# Altium footprint library DF40C-40DP.PcbLib: 1 footprints
Each footprint in its own frame and in the unit in brackets; x right, y up, seen from the top. Pads: shape width x height; smd on the part's side, far side on the other; paste and mask are expansions set on the pad; w line width, h text height; cw(c..) or ccw(c..) is an arc to the next point about the centre after c.
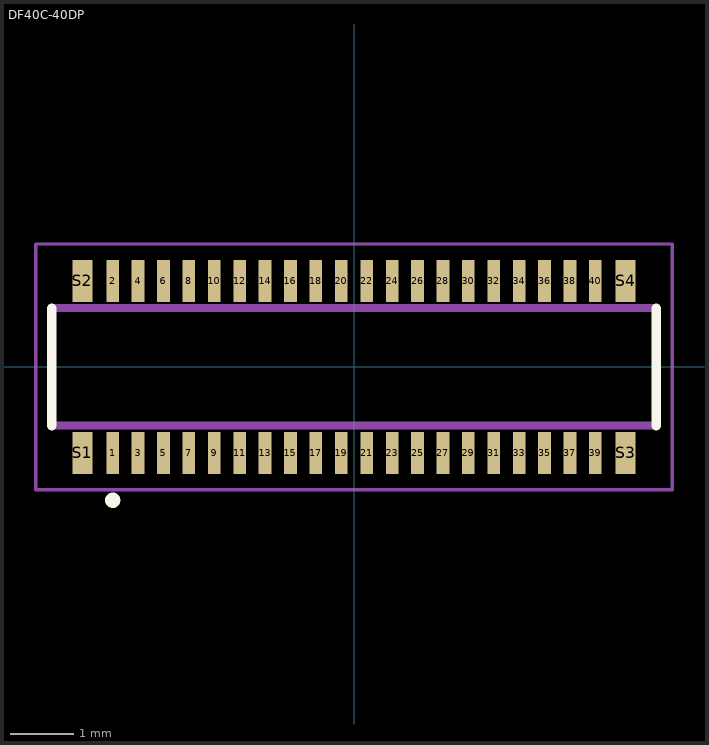
[diagram p0: the footprint, top view; thin cyan lines are the x and y axes]

## DF40C-40DP [mm]
pads (44):
  rect 0.2x0.66 smd: 1(-3.8,-1.355) 2(-3.8,1.355) 3(-3.4,-1.355) 4(-3.4,1.355) 5(-3,-1.355) 6(-3,1.355) 7(-2.6,-1.355) 8(-2.6,1.355) 9(-2.2,-1.355) 10(-2.2,1.355) 11(-1.8,-1.355) 12(-1.8,1.355) 13(-1.4,-1.355) 14(-1.4,1.355) 15(-1,-1.355) 16(-1,1.355) 17(-0.6,-1.355) 18(-0.6,1.355) 19(-0.2,-1.355) 20(-0.2,1.355) 21(0.2,-1.355) 22(0.2,1.355) 23(0.6,-1.355) 24(0.6,1.355) 25(1,-1.355) 26(1,1.355) 27(1.4,-1.355) 28(1.4,1.355) 29(1.8,-1.355) 30(1.8,1.355) 31(2.2,-1.355) 32(2.2,1.355) 33(2.6,-1.355) 34(2.6,1.355) 35(3,-1.355) 36(3,1.355) 37(3.4,-1.355) 38(3.4,1.355) 39(3.8,-1.355) 40(3.8,1.355)
  rect 0.32x0.66 smd: S1(-4.275,-1.355) S2(-4.275,1.355) S3(4.275,-1.355) S4(4.275,1.355)
Top Overlay:
  circle w0.12: c-3.8,-2.1 r0.06
  lines w0.15: -4.76,-0.925 -4.76,0.925 ; 4.76,-0.925 4.76,0.925
Mechanical 13:
  lines w0.127: -4.76,-0.925 4.76,-0.925 4.76,0.925 -4.76,0.925 -4.76,-0.925
Mechanical 15:
  lines w0.05: -5.01,-1.935 5.01,-1.935 5.01,1.935 -5.01,1.935 -5.01,-1.935
3D body "df40c-40dp-0_4v_51_.stp": height 1.14, standoff 0, extent -4.76,-1.45 4.76,1.52